# EAGLE library part SWITCH-SLIDE-103-5043-EV (library Pygmy)
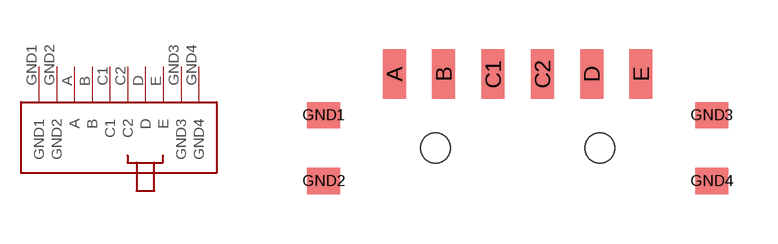
[diagram p74: symbol with the pads of SWITCH-SLIDE-103-5043-EV; footprint SWITCH-SLIDE-103-5043-EV]

Designator prefix -

## SWITCH-SLIDE-103-5043-EV  [SWITCH-SLIDE-103-5043-EV]
A  A
B  B
C1  C1
C2  C2
D  D
E  E
GND1  GND1
GND2  GND2
GND3  GND3
GND4  GND4

## Footprint SWITCH-SLIDE-103-5043-EV (pad centres in mm)
smd 0.7 x 1.5: A -3.75,2.25; B -2.25,2.25; C1 -0.75,2.25; C2 0.75,2.25; D 2.25,2.25; E 3.75,2.25
smd 1 x 0.8: GND1 -5.9,1; GND2 -5.9,-1; GND3 5.9,1; GND4 5.9,-1
hole 0.9 at -2.5,0
hole 0.9 at 2.5,0